# EAGLE library part RM2 (library RpiPico)
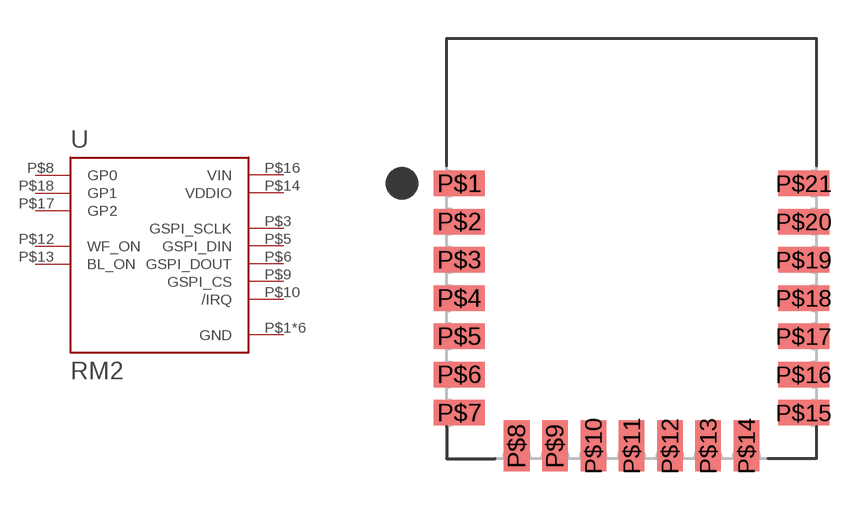
[diagram p5: symbol with the pads of RM2; footprint RM2]

Designator prefix U

## RM2  [RM2]
P$1  GND  pwr
P$3  GSPI_SCLK  in
P$4  GND  pwr
P$5  GSPI_DIN  in
P$6  GSPI_DOUT  out
P$7  GND  pwr
P$8  GP0
P$9  GSPI_CS  in
P$10  /IRQ  out
P$11  GND  pwr
P$12  WF_ON  out
P$13  BL_ON  out
P$14  VDDIO  pwr
P$15  GND  pwr
P$16  VIN  pwr
P$17  GP2
P$18  GP1
P$21  GND  pwr

## Footprint RM2 (pad centres in mm)
smd 2 x 1: P$1 0.5,10.8; P$2 0.5,9.3; P$3 0.5,7.8; P$4 0.5,6.3; P$5 0.5,4.8; P$6 0.5,3.3; P$7 0.5,1.8; P$15 14,1.8; P$16 14,3.3; P$17 14,4.8; P$18 14,6.3; P$19 14,7.8; P$20 14,9.3; P$21 14,10.8
smd 1 x 2: P$8 2.75,0.5; P$9 4.25,0.5; P$10 5.75,0.5; P$11 7.25,0.5; P$12 8.75,0.5; P$13 10.25,0.5; P$14 11.75,0.5